# Altium integrated library Embedded MCU, Boards.IntLib: 1 symbol
Pins are listed as number, name and electrical type; pins without a type are passive.

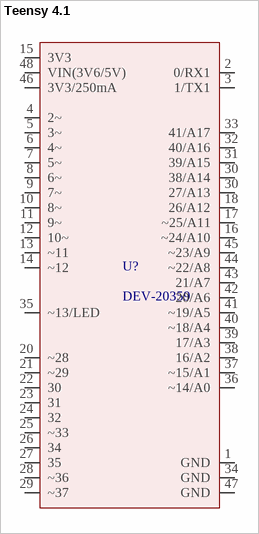
[diagram p0: symbol Teensy 4.1]

## Teensy 4.1
designator U?, comment DEV-20359
Teensy 4.1 Without Ethernet; Manufacturer: SparkFun; Designed: Ferdi; Supplier 1: Digi-Key; Manufacturer Part Number: DEV-20359; RoHS: No; Category: Embedded Processors and Controllers; Stock 1: 761; Pricing 1: 1=31,08 (USD); Supplier Part Number 1: 1568-DEV-20359-ND
footprint Teensy 4.1
pins: 1 GND, 2 0/RX1, 3 1/TX1, 4 2~, 5 3~, 6 4~, 7 5~, 8 6~, 9 7~, 10 8~, 11 9~, 12 10~, 13 ~11, 14 ~12, 15 3V3, 16 ~24/A10, 17 ~25/A11, 18 26/A12, 20 ~28, 21 ~29, 22 30, 23 31, 24 32, 25 ~33, 26 34, 27 35, 28 ~36, 29 ~37, 30 38/A14, 30 27/A13, 31 39/A15, 32 40/A16, 33 41/A17, 34 GND, 35 ~13/LED, 36 ~14/A0, 37 ~15/A1, 38 16/A2, 39 17/A3, 40 ~18/A4, 41 ~19/A5, 42 20/A6, 43 21/A7, 44 ~22/A8, 45 ~23/A9, 46 3V3/250mA, 47 GND, 48 VIN(3V6/5V)